# EAGLE library part OV7670FIFO (library me433-2021)
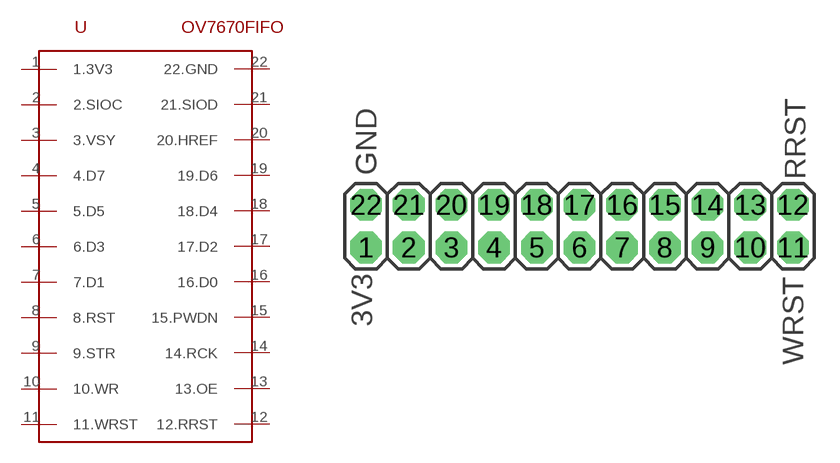
[diagram p10: symbol with the pads of OV7670FIFO; footprint OV7670FIFO]

Designator prefix -

## OV7670FIFO  [OV7670FIFO]
1  1.3V3
2  2.SIOC
3  3.VSY
4  4.D7
5  5.D5
6  6.D3
7  7.D1
8  8.RST
9  9.STR
10  10.WR
11  11.WRST
12  12.RRST
13  13.OE
14  14.RCK
15  15.PWDN
16  16.D0
17  17.D2
18  18.D4
19  19.D6
20  20.HREF
21  21.SIOD
22  22.GND

## Footprint OV7670FIFO (pad centres in mm)
drill 1.016 pad 1.88 octagon: 1 -11.43,-2.54; 2 -8.89,-2.54; 3 -6.35,-2.54; 4 -3.81,-2.54; 5 -1.27,-2.54; 6 1.27,-2.54; 7 3.81,-2.54; 8 6.35,-2.54; 9 8.89,-2.54; 10 11.43,-2.54; 11 13.97,-2.54; 12 13.97,0; 13 11.43,0; 14 8.89,0; 15 6.35,0; 16 3.81,0; 17 1.27,0; 18 -1.27,0; 19 -3.81,0; 20 -6.35,0; 21 -8.89,0; 22 -11.43,0